# Altium schematic symbol library NEC_RFINT.SchLib: 7 symbols
Pins are listed as number, name and electrical type; pins without a type are passive.

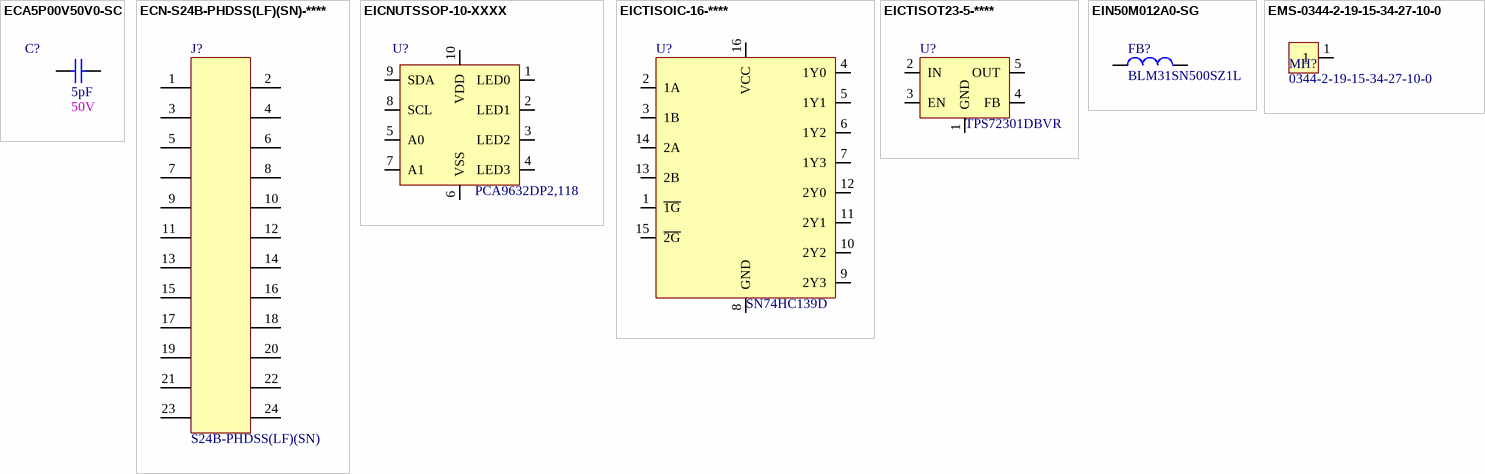
[diagram p0: symbols ECA5P00V50V0-SC to EMS-0344-2-19-15-34-27-10-0]

## ECA5P00V50V0-SC
designator C?, comment value 5pF  1st Auxiliary Field: 50V  (hidden comment: CAP CER 5PF 50V NP0 0603)
Manufacturer: KEMET; Internal Part Number: ECA5P00V50V0-SC; Manufacturer Part Number: CBR06C509C5GAC; Vendor Part Number: 399-17324-1-ND; Component Height (mm): 0.87mm; 3rd Auxiliary Field: ROHS3 Compliant; Temp Co: -55°C ~ 125°C; Vendor Name: Digi-Key; 2nd Auxiliary Field: ±0.25pF; Part Type: CAP CER 5PF 50V NP0 0603; 4th Auxiliary Field: *
footprint SMDC0603
pins: 1, 2

## ECN-S24B-PHDSS(LF)(SN)-****
designator J?, comment value S24B-PHDSS(LF)(SN)  (hidden comment: CONN HEADER R/A 24POS 2MM)
Vendor Part Number: 455-1782-ND; Manufacturer: JST Sales America Inc.; Internal Part Number: ECN-S24B-PHDSS(LF)(SN)-****; 2nd Auxiliary Field: 2.00mm; 3rd Auxiliary Field: RoHS Compliant; Vendor Name: Digi-Key; Component Height (mm): 5mm; Temp Co: -25°C ~ 85°C; Part Type: CONN HEADER R/A 24POS 2MM; 1st Auxiliary Field: 24 Pos; 4th Auxiliary Field: *; Manufacturer Part Number: S24B-PHDSS(LF)(SN)
footprint JST_S24B-PHDSS(LF)(SN) (Footprint not found)
pins: 1, 2, 3, 4, 5, 6, 7, 8, 9, 10, 11, 12, 13, 14, 15, 16, 17, 18, 19, 20, 21, 22, 23, 24

## EICNUTSSOP-10-XXXX
designator U?, comment value PCA9632DP2,118  (hidden comment: IC LED DRVR LIN DIM 25MA 10TSSOP)
Internal Part Number: EICNUTSSOP-10-XXXX; Manufacturer: NXP USA Inc.; Vendor Part Number: 568-8254-1-ND; 1st Auxiliary Field: 2.3V ~ 5.5V; 3rd Auxiliary Field: ROHS3 Compliant; Component Height (mm): 1.1mm; Temp Co: -40°C ~ 85°C (TA); Vendor Name: Digi-Key; 4th Auxiliary Field: *; Manufacturer Part Number: PCA9632DP2,118; Part Type: IC LED DRVR LIN DIM 25MA 10TSSOP; 2nd Auxiliary Field: 25mA
footprint TSSOP50P490X110-10N (TSSOP, 10-Leads, Body 3.00x3.00mm, Pitch 0.50mm, IPC Medium Density)
pins: 1 LED0, 2 LED1, 3 LED2, 4 LED3, 5 A0, 6 VSS, 7 A1, 8 SCL, 9 SDA, 10 VDD

## EICTISOIC-16-****
designator U?, comment value SN74HC139D  (hidden comment: IC DUAL 2-4LN DECOD/DEMUX 16SOIC)
Manufacturer: Texas Instruments; Internal Part Number: EICTISOIC-16-****; Vendor Part Number: 296-8229-5-ND; Component Height (mm): 1.75mm; 3rd Auxiliary Field: ROHS3 Compliant; Vendor Name: Digi-Key; 1st Auxiliary Field: 2V ~ 6V; 2nd Auxiliary Field: 5.2mA; Temp Co: -40°C ~ 85°C; Manufacturer Part Number: SN74HC139D; Part Type: IC DUAL 2-4LN DECOD/DEMUX 16SOIC; 4th Auxiliary Field: *
footprint SOIC127P600X175-16N (74HC4052D,653  2 Circuit IC Switch 4:1 150 Ohm 16-SO)
pins: 1 ~{1G}, 2 1A, 3 1B, 4 1Y0, 5 1Y1, 6 1Y2, 7 1Y3, 8 GND, 9 2Y3, 10 2Y2, 11 2Y1, 12 2Y0, 13 2B, 14 2A, 15 ~{2G}, 16 VCC (power)

## EICTISOT23-5-****
designator U?, comment value TPS72301DBVR  (hidden comment: IC REG LIN NEG ADJ 200MA SOT23-5)
Manufacturer: Texas Instruments; Internal Part Number: EICTISOT23-5-****; Vendor Part Number: 296-27049-1-ND; Component Height (mm): 1.1mm; 3rd Auxiliary Field: ROHS3 Compliant; Vendor Name: Digi-Key; 1st Auxiliary Field: -10V; Temp Co: -40°C ~ 125°C; Manufacturer Part Number: TPS72301DBVR; Part Type: IC REG LIN NEG ADJ 200MA SOT23-5; 4th Auxiliary Field: *; 2nd Auxiliary Field: 200mA
footprint SOT95P280X110-5N (Footprint not found)
pins: 1 GND, 2 IN, 3 EN, 4 FB, 5 OUT

## EIN50M012A0-SG
designator FB?, comment value BLM31SN500SZ1L  (hidden comment: FERRITE BEAD 50 OHM 1206 1LN)
Manufacturer: Murata Electronics; Internal Part Number: EIN50M012A0-SG; Vendor Part Number: 490-13270-1-ND; 3rd Auxiliary Field: ROHS3 Compliant; Component Height (mm): 1.30mm; Temp Co: -55°C ~ 125°C; Vendor Name: Digi-Key; 2nd Auxiliary Field: 50 OHM; 1st Auxiliary Field: 12A; Manufacturer Part Number: BLM31SN500SZ1L; Part Type: FERRITE BEAD 50 OHM 1206 1LN; 4th Auxiliary Field: *
footprint SMDL1206
pins: 1, 2

## EMS-0344-2-19-15-34-27-10-0
designator MH?, comment value 0344-2-19-15-34-27-10-0  (hidden comment: CONN PIN RCPT .032-.046 SWAGE)
Internal Part Number: EMS-0344-2-19-15-34-27-10-0; Vendor Part Number: ED90085-ND; Manufacturer: Mill-Max Manufacturing Corp.; 1st Auxiliary Field: Beryllium Copper; 3rd Auxiliary Field: ROHS3 Compliant; Vendor Name: Digi-Key; Component Height (mm): 5.84mm; Temp Co: -55°C ~ 125°C; 2nd Auxiliary Field: RCPT .032-.046 SWAGE; 4th Auxiliary Field: *; Part Type: CONN PIN RCPT .032-.046 SWAGE; Manufacturer Part Number: 0344-2-19-15-34-27-10-0
footprint MH_0344-2-19-15-34-27-10-0 (CONN PIN RCPT .032-.046 SWAGE)
pins: 1